# Altium footprint library common.PcbLib: 92 footprints (part 3 of 6)
Each footprint in its own frame and in the unit in brackets; x right, y up, seen from the top. Pads: shape width x height; smd on the part's side, far side on the other; paste and mask are expansions set on the pad; w line width, h text height; cw(c..) or ccw(c..) is an arc to the next point about the centre after c.
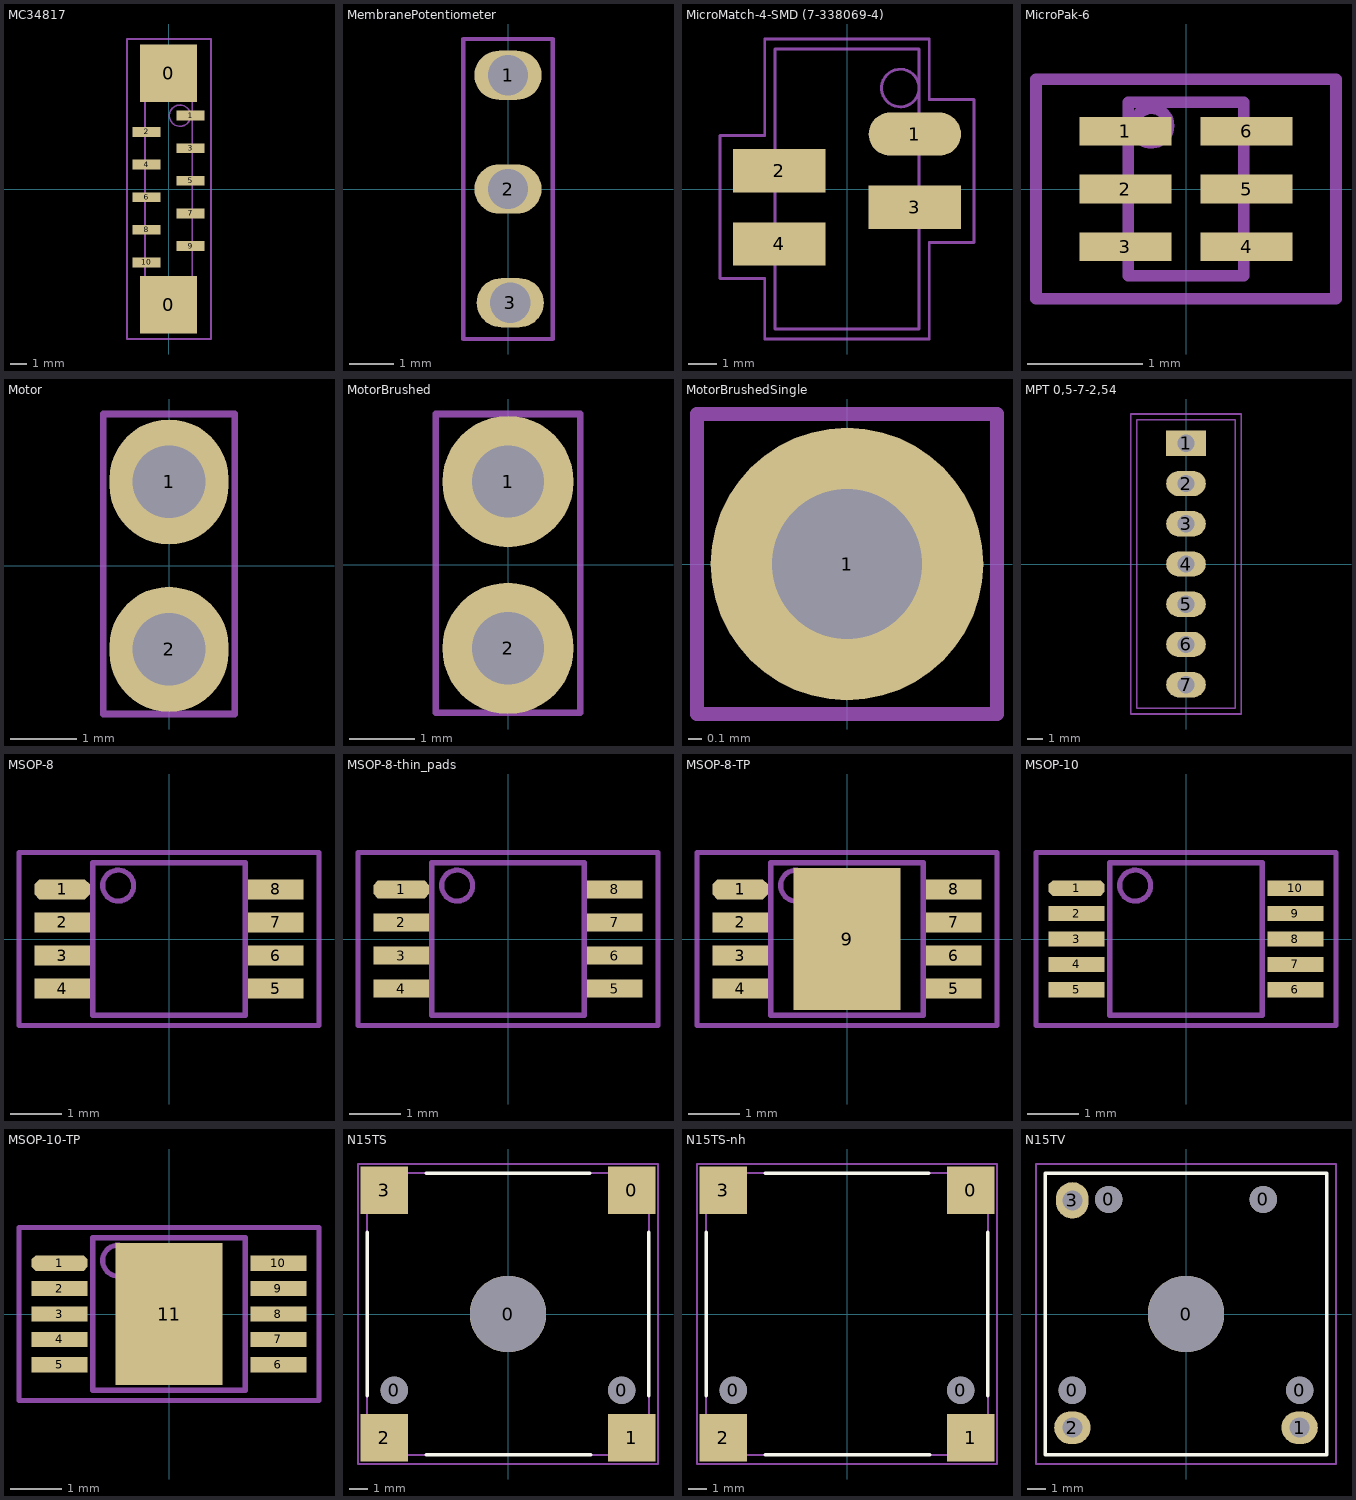
[diagram p2: the footprints below, top view; thin cyan lines are the x and y axes]

## MC34817 [mm] "10-pin FFC/FPC Connector from Multicomp, Body 17.4x2.9mm, Pitch 1mm, IPC Low Density"
height 5.95
pads (12):
  rect 3.5x3.5 smd: 0(0,-7.1) 0(0,7.1)
  rect 1.7x0.6 smd: 1(1.35,4.5) 2(-1.35,3.5) 3(1.35,2.5) 4(-1.35,1.5) 5(1.35,0.5) 6(-1.35,-0.5) 7(1.35,-1.5) 8(-1.35,-2.5) 9(1.35,-3.5) 10(-1.35,-4.5)
Mechanical 13:
  circle w0.1: c0.698,4.5 r0.652
  lines w0.1: -1.45,-8.7 -1.45,8.7 1.45,8.7 1.45,-8.7 -1.45,-8.7
Mechanical 15:
  lines w0.1: -2.55,-9.2 2.6,-9.2 ; -2.55,9.2 2.6,9.2
  lines w0.127: -2.55,-9.2 -2.55,9.2 ; 2.6,-9.2 2.6,9.2
3D body: height 5.95, standoff 0, extent -1.45,-8.7 1.45,8.7

## MembranePotentiometer [mm] "3-pin connector to membrane potentiometer, Pitch 2.54mm, IPC Low Density"
pads (3):
  oval 1.5x1.1 hole 0.9: 1(0,2.54) 2(0,0) 3(0.05,-2.54)
Mechanical 15:
  lines w0.1: -1,-3.35 -1,3.35 1,3.35 1,-3.35 -1,-3.35

## MicroMatch-4-SMD (7-338069-4) [mm] "4-pin Micro Match Connector Female, Body 9.7x5.0mm, Pitch 1.27mm, IPC Low Density"
height 5.3
pads (4):
  oval 3.2x1.5 smd: 1(2.35,1.905)
  rect 3.2x1.5 smd: 2(-2.35,0.635) 3(2.35,-0.635) 4(-2.35,-1.905)
Mechanical 13:
  circle w0.1: c1.848,3.5 r0.652
  lines w0.1: -2.5,-4.85 -2.5,4.85 2.5,4.85 2.5,-4.85 -2.5,-4.85
Mechanical 15:
  lines w0.1: -4.4,-3.1 -4.4,1.85 -2.85,1.85 -2.85,5.2 2.85,5.2 2.85,3.1 4.4,3.1 4.4,-1.85 2.85,-1.85 2.85,-5.2 -2.85,-5.2 -2.85,-3.1 -4.4,-3.1
3D body: height 5.3, standoff 0, extent -2.5,-4.85 2.5,4.85

## MicroPak-6 [mm] "MicroPak, Body 1.45x1.0mm, Pitch 0.5mm, IPC Low Density"
height 0.55
pads (6):
  rect 0.8x0.25 smd: 1(-0.525,0.5) 2(-0.525,0) 3(-0.525,-0.5) 4(0.525,-0.5) 5(0.525,0) 6(0.525,0.5)
Mechanical 13:
  circle w0.1: c-0.3,0.55 r0.15
  lines w0.1: -0.5,-0.75 -0.5,0.75 0.5,0.75 0.5,-0.75 -0.5,-0.75
Mechanical 15:
  lines w0.1: -1.3,-0.95 -1.3,0.95 1.3,0.95 1.3,-0.95 -1.3,-0.95
3D body: height 0.55, standoff 0, extent -0.5,-0.75 0.5,0.75

## Motor [mm] "Motor connection, hole 1.0mm,  pitch 2mm"
pads (2):
  oval 1.8x1.9 hole 1.1: 1(0,1.27) 2(0,-1.27)
Mechanical 15:
  lines w0.1: -1,-2.25 -1,2.3 1,2.3 1,-2.25 -1,-2.25

## MotorBrushed [mm] "Brushed motor power connector, hole 1.1mm,  pitch 2.54mm"
pads (2):
  round 2 hole 1.1: 1(0,1.27) 2(0,-1.27)
Mechanical 15:
  lines w0.1: -1.1,-2.25 1.1,-2.25 1.1,2.3 -1.1,2.3 -1.1,-2.25

## MotorBrushedSingle [mm] "Brushed motor power connector, hole 1.1mm"
pads (1):
  round 2 hole 1.1: 1(0,0)
Mechanical 15:
  lines w0.1: -1.1,-1.1 1.1,-1.1 1.1,1.1 -1.1,1.1 -1.1,-1.1

## MPT 0,5-7-2,54 [mm] "7-pin wire-to-board connector, 18.24x6.2mm, Pitch 2.54mm, IPC Low Density"
height 8.5
pads (7):
  rect 2.5x1.6 hole 1.1: 1(0,7.62)
  oval 2.5x1.6 hole 1.1: 2(0,5.08) 3(0,2.54) 4(0,0) 5(0,-2.54) 6(0,-5.08) 7(0,-7.62)
Mechanical 13:
  lines w0.1: -3.1,-9.12 3.1,-9.12 3.1,9.12 -3.1,9.12 -3.1,-9.12
Mechanical 15:
  lines w0.1: -3.5,-9.47 -3.5,9.47 3.5,9.47 3.5,-9.47 -3.5,-9.47
3D body: height 8.5, standoff -3.5, extent -3.1,-9.17 3.1,9.07

## MSOP-8 [mm] "MSOP, 8-Leads, Body 3x3mm, Pitch 0.65mm, IPC Medium Density"
height 1.1
pads (8):
  oct 1.1x0.4 smd: 1(-2.1,0.975)
  rect 1.1x0.4 smd: 2(-2.1,0.325) 3(-2.1,-0.325) 4(-2.1,-0.975) 5(2.1,-0.975) 6(2.1,-0.325) 7(2.1,0.325) 8(2.1,0.975)
Mechanical 13:
  circle w0.1: c-1,1.05 r0.304
  lines w0.1: -1.5,-1.5 -1.5,1.5 1.5,1.5 1.5,-1.5 -1.5,-1.5
Mechanical 15:
  lines w0.1: -2.95,-1.7 -2.95,1.7 2.95,1.7 2.95,-1.7 -2.95,-1.7
3D body: height 1.1, standoff 0, extent -1.5,-1.5 1.5,1.5

## MSOP-8-thin_pads [mm] "MSOP, 8-Leads, Body 3x3mm, Pitch 0.65mm, IPC Medium Density"
height 1.1
pads (8):
  oct 1.1x0.35 smd: 1(-2.1,0.975)
  rect 1.1x0.35 smd: 2(-2.1,0.325) 3(-2.1,-0.325) 4(-2.1,-0.975) 5(2.1,-0.975) 6(2.1,-0.325) 7(2.1,0.325) 8(2.1,0.975)
Mechanical 13:
  circle w0.1: c-1,1.05 r0.304
  lines w0.1: -1.5,-1.5 1.5,-1.5 1.5,1.5 -1.5,1.5 -1.5,-1.5
Mechanical 15:
  lines w0.1: -2.95,-1.7 2.95,-1.7 2.95,1.7 -2.95,1.7 -2.95,-1.7
3D body: height 1.1, standoff 0, extent -1.5,-1.5 1.5,1.5

## MSOP-8-TP [mm] "MSOP, 8-Leads+thermal pad, Body 3x3mm, Pitch 0.65mm, IPC Medium Density"
height 1.1
pads (9):
  oct 1.1x0.4 smd: 1(-2.1,0.975)
  rect 1.1x0.4 smd: 2(-2.1,0.325) 3(-2.1,-0.325) 4(-2.1,-0.975) 5(2.1,-0.975) 6(2.1,-0.325) 7(2.1,0.325) 8(2.1,0.975)
  rect 2.1x2.8 smd: 9(0,0)
Mechanical 13:
  circle w0.1: c-1,1.05 r0.304
  lines w0.1: -1.5,-1.5 -1.5,1.5 1.5,1.5 1.5,-1.5 -1.5,-1.5
Mechanical 15:
  lines w0.1: -2.95,-1.7 -2.95,1.7 2.95,1.7 2.95,-1.7 -2.95,-1.7
3D body: height 1.1, standoff 0, extent -1.5,-1.5 1.5,1.5

## MSOP-10 [mm] "MSOP, 10-Leads, Body 3x4.9mm, Pitch 0.5mm, IPC Medium Density"
height 1.1
pads (10):
  oct 1.1x0.3 smd: 1(-2.15,1)
  rect 1.1x0.3 smd: 2(-2.15,0.5) 3(-2.15,0) 4(-2.15,-0.5) 5(-2.15,-1) 6(2.15,-1) 7(2.15,-0.5) 8(2.15,0) 9(2.15,0.5) 10(2.15,1)
Mechanical 13:
  circle w0.1: c-1,1.05 r0.304
  lines w0.1: -1.5,-1.5 1.5,-1.5 1.5,1.5 -1.5,1.5 -1.5,-1.5
Mechanical 15:
  lines w0.1: -2.95,-1.7 2.95,-1.7 2.95,1.7 -2.95,1.7 -2.95,-1.7
3D body: height 1.1, standoff 0, extent -1.5,-1.5 1.5,1.5

## MSOP-10-TP [mm] "MSOP, 10-Leads+thermal pad, Body 3x4.9mm, Pitch 0.5mm, IPC Medium Density"
height 1.1
pads (11):
  oct 1.1x0.3 smd: 1(-2.15,1)
  rect 1.1x0.3 smd: 2(-2.15,0.5) 3(-2.15,0) 4(-2.15,-0.5) 5(-2.15,-1) 6(2.15,-1) 7(2.15,-0.5) 8(2.15,0) 9(2.15,0.5) 10(2.15,1)
  rect 2.1x2.8 smd: 11(0,0)
Mechanical 13:
  circle w0.1: c-1,1.05 r0.304
  lines w0.1: -1.5,-1.5 1.5,-1.5 1.5,1.5 -1.5,1.5 -1.5,-1.5
Mechanical 15:
  lines w0.1: -2.95,-1.7 2.95,-1.7 2.95,1.7 -2.95,1.7 -2.95,-1.7
3D body: height 1.1, standoff 0, extent -1.5,-1.5 1.5,1.5

## N15TS [mm] "Potentiometer from Piher, SMD, Body 15.5x15.5mm"
height 4.4
pads (7):
  round 1.5 hole 1.5: 0(-6.25,-4.2) 0(6.25,-4.2)
  round 4.2 hole 4.2: 0(0,0)
  rect 2.6x2.6 smd: 0(6.8,6.8) 1(6.8,-6.8) 2(-6.8,-6.8) 3(-6.8,6.8)
Top Overlay:
  lines w0.2: -7.75,-4.5 -7.75,4.5 ; -4.5,-7.75 4.55,-7.75 ; -4.5,7.75 4.5,7.75 ; 7.75,-4.5 7.75,4.5
Mechanical 13:
  lines w0.1: -7.75,-7.75 -7.75,7.75 7.75,7.75 7.75,-7.75 ; -6,-7.75 6,-7.75
Mechanical 15:
  lines w0.1: -8.25,-8.25 8.25,-8.25 8.25,8.25 -8.25,8.25 -8.25,-8.25
3D body: height 4.5, standoff 0, extent -7.75,-7.75 7.75,7.75

## N15TS-nh [mm] "Potentiometer from Piher without hole in the middle, SMD, Body 15.5x15.5mm"
height 4.4
pads (6):
  round 1.5 hole 1.5: 0(-6.25,-4.2) 0(6.25,-4.2)
  rect 2.6x2.6 smd: 0(6.8,6.8) 1(6.8,-6.8) 2(-6.8,-6.8) 3(-6.8,6.8)
Top Overlay:
  lines w0.2: -7.75,-4.5 -7.75,4.5 ; -4.5,-7.75 4.55,-7.75 ; -4.5,7.75 4.5,7.75 ; 7.75,-4.5 7.75,4.5
Mechanical 13:
  lines w0.1: -7.75,-7.75 -7.75,7.75 7.75,7.75 7.75,-7.75 ; -6,-7.75 6,-7.75
Mechanical 15:
  lines w0.1: -8.25,-8.25 8.25,-8.25 8.25,8.25 -8.25,8.25 -8.25,-8.25
3D body: height 4.5, standoff 0, extent -7.75,-7.75 7.75,7.75

## N15TV [mm] "Potentiometer from Piher, Through Hole Mount, Body 15.5x15.5mm"
height 4.4
pads (8):
  round 1.5 hole 1.5: 0(-6.25,-4.2) 0(-4.25,6.3) 0(4.25,6.3) 0(6.25,-4.2)
  round 4.2 hole 4.2: 0(0,0)
  oval 2x1.8 hole 1.1: 1(6.25,-6.25) 2(-6.25,-6.25)
  oval 1.8x2 hole 1.1: 3(-6.25,6.25)
Top Overlay:
  lines w0.2: -7.75,-7.75 -7.75,7.75 7.75,7.75 7.75,-7.75 -7.75,-7.75
Mechanical 13:
  lines w0.1: -7.75,-7.75 -7.75,7.75 7.75,7.75 7.75,-7.75 -7.75,-7.75
Mechanical 15:
  lines w0.1: -8.25,-8.25 -8.25,8.25 8.25,8.25 8.25,-8.25 -8.25,-8.25
3D body: height 4.5, standoff 0, extent -7.75,-7.75 7.75,7.75